# Altium footprint library Gamepad_PCB_Library.PcbLib: 14 footprints
Each footprint in its own frame and in the unit in brackets; x right, y up, seen from the top. Pads: shape width x height; smd on the part's side, far side on the other; paste and mask are expansions set on the pad; w line width, h text height; cw(c..) or ccw(c..) is an arc to the next point about the centre after c.
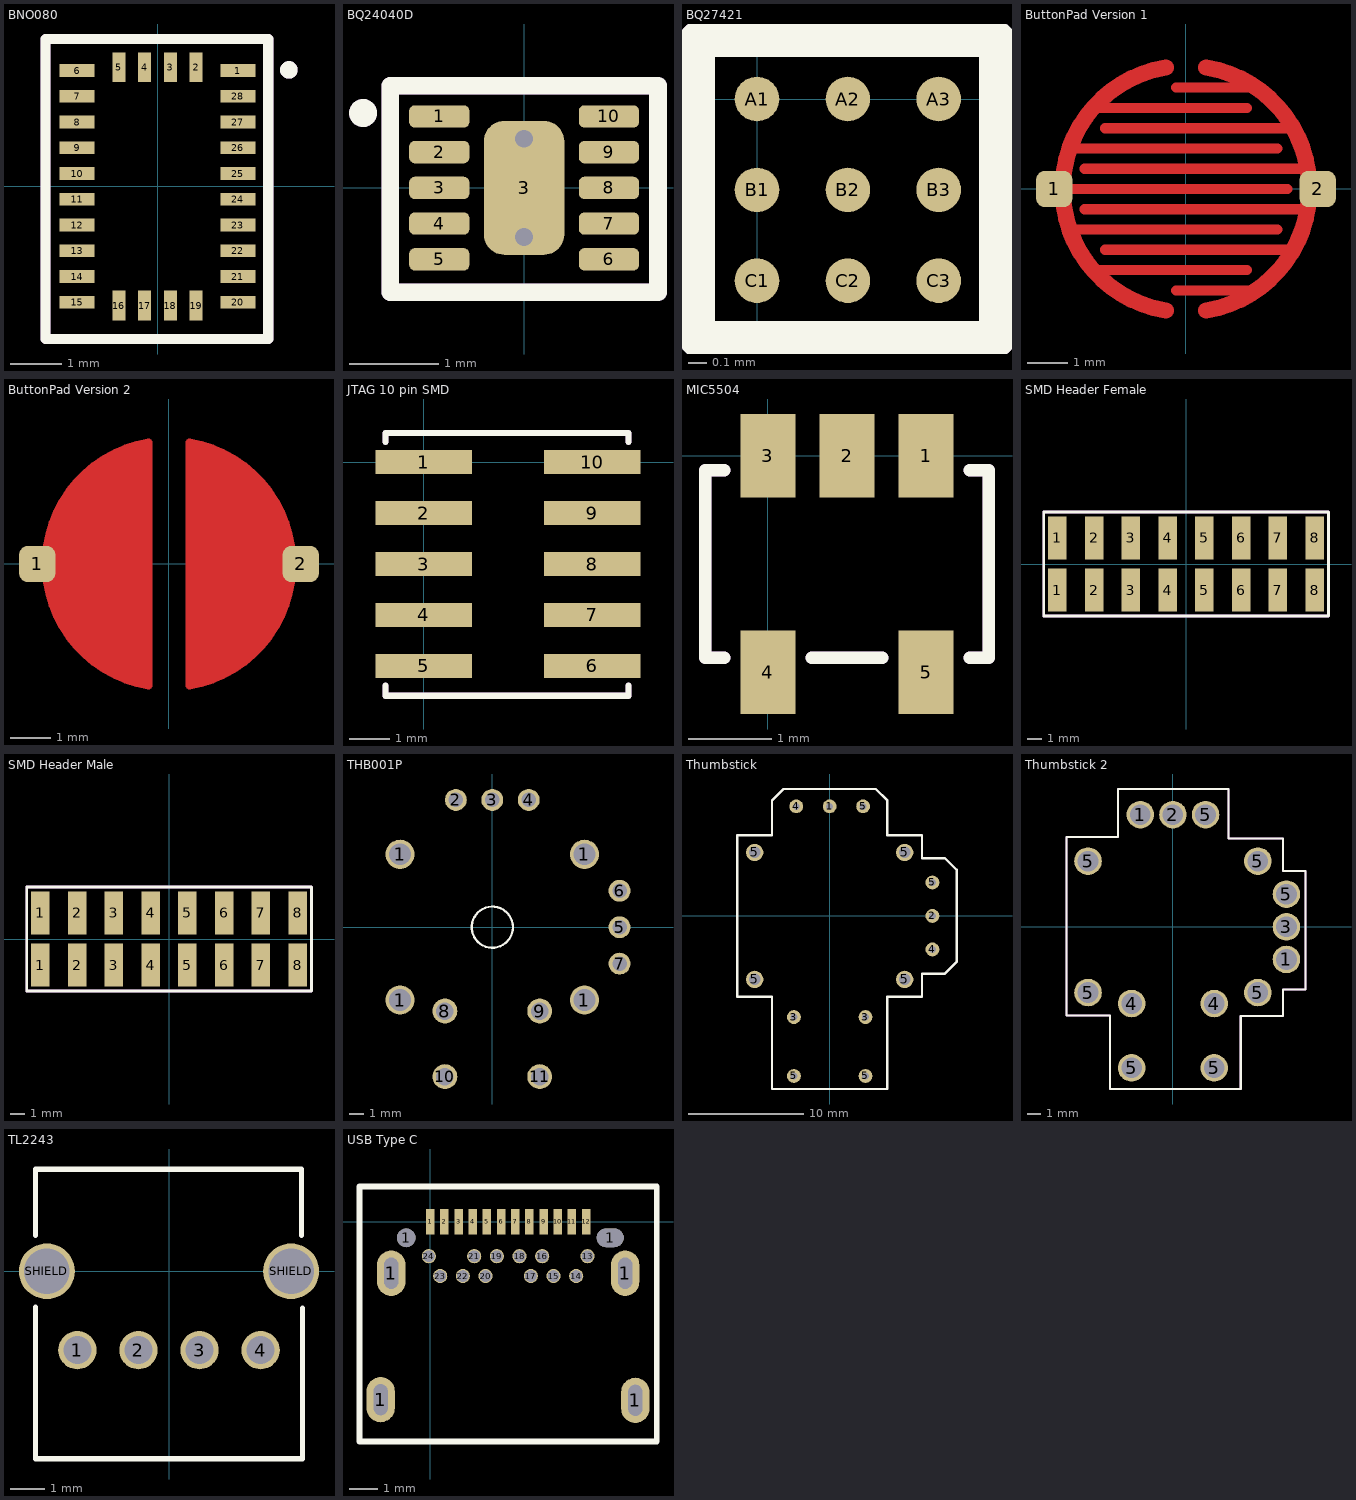
[diagram p0: the footprints below, top view; thin cyan lines are the x and y axes]

## BNO080 [mm]
pads (28):
  rect 0.675x0.25 smd: 1(1.563,2.25) 6(-1.562,2.25) 7(-1.562,1.75) 8(-1.562,1.25) 9(-1.562,0.75) 10(-1.562,0.25) 11(-1.562,-0.25) 12(-1.562,-0.75) 13(-1.562,-1.25) 14(-1.562,-1.75) 15(-1.562,-2.25) 20(1.563,-2.25) 21(1.563,-1.75) 22(1.563,-1.25) 23(1.563,-0.75) 24(1.563,-0.25) 25(1.563,0.25) 26(1.563,0.75) 27(1.563,1.25) 28(1.563,1.75)
  rect 0.25x0.575 smd: 2(0.75,2.312) 3(0.25,2.312) 4(-0.25,2.312) 5(-0.75,2.312) 16(-0.75,-2.312) 17(-0.25,-2.312) 18(0.25,-2.312) 19(0.75,-2.312)
Top Overlay:
  circle w0.198: c2.55,2.262 r0.071
  lines w0.198: -2.175,-2.963 2.15,-2.963 2.15,2.862 -2.175,2.862 -2.175,-2.963
Mechanical 29:
  circle w0.198: c2.55,2.262 r0.071
  lines w0.198: -2.175,-2.963 -2.175,2.862 2.15,2.862 2.15,-2.963 -2.175,-2.963
  text "'.Designator'" at -1.893,-0.338 h0.7
3D body "BNO080--3DModel-STEP-56544.STEP": height 1.19, standoff 0.01, extent -1.887,-2.6 1.913,2.6

## BQ24040D [mm]
pads (11):
  rrect50% 0.675x0.25 smd mask+0.07: 1(-0.95,0.8) 2(-0.95,0.4) 3(-0.95,0) 4(-0.95,-0.4) 5(-0.95,-0.8) 6(0.95,-0.8) 7(0.95,-0.4) 8(0.95,0) 9(0.95,0.4) 10(0.95,0.8)
  rrect50% 0.9x1.5 smd mask+0.07: 3(0,0)
via 0,0.55 diameter 0.3 hole 0.2
via 0,-0.55 diameter 0.3 hole 0.2
Top Overlay:
  circle w0.198: c-1.803,0.838 r0.057
  lines w0.198: -1.5,-1.168 -1.5,1.143 1.5,1.143 1.5,-1.168 -1.5,-1.168
Mechanical 29:
  circle w0.198: c-1.803,0.838 r0.057
  lines w0.198: -1.5,-1.168 -1.5,1.143 1.5,1.143 1.5,-1.168 -1.5,-1.168
  text "'.Designator'" at -1.043,-0.302 h0.7
3D body "BQ24040DSQT.STEP": height 0.81, standoff 0.01, extent -1,-1 1,1

## BQ27421 [mm]
pads (9):
  round 0.245 smd mask+0.05: A1(0,0) A2(0.5,0) A3(1,0) B1(0,-0.5) B2(0.5,-0.5) B3(1,-0.5) C1(0,-1) C2(0.5,-1) C3(1,-1)
Top Overlay:
  lines w0.2: -0.33,-1.321 -0.33,0.33 1.321,0.33 1.321,-1.321 -0.33,-1.321
Mechanical 29:
  lines w0.2: -0.33,-1.321 -0.33,0.33 1.321,0.33 1.321,-1.321 -0.33,-1.321
  text "'.Designator'" at -0.103,-0.835 h0.7
3D body "BQ27421YZFT-G1A.STEP": height 0.63, standoff 0, extent -0.29,-1.31 1.29,0.31

## ButtonPad Version 1 [mm]
pads (2):
  rrect50% 0.9x0.9 smd: 1(-3.25,0) 2(3.25,0)
Top Layer:
  lines w0.25: -3,0 2.5,0 ; -2.75,-1 2.25,-1 ; -2.75,1 2.25,1 ; -2.5,-0.5 3,-0.5 ; -2.5,0.5 3,0.5 ; -2.25,-2 1.5,-2 ; -2.25,2 1.5,2 ; -2,-1.5 2.5,-1.5 ; -2,1.5 2.5,1.5 ; -0.25,-2.5 1.75,-2.5 ; -0.25,2.5 1.75,2.5
  lines w0.4: -0.5,-3 cw(c0,0) -0.5,3 ; 0.5,-3 ccw(c0,0) 0.5,3

## ButtonPad Version 2 [mm]
pads (2):
  rrect50% 0.9x0.9 smd: 1(-3.25,0) 2(3.25,0)
Top Layer:
  region: 0.5,3 0.764,2.956 1.269,2.777 1.735,2.512 2.147,2.17 2.494,1.761 2.763,1.298 2.948,0.795 3.041,0.268 3.041,-0.268 2.948,-0.795 2.763,-1.298 2.494,-1.761 2.147,-2.17 1.735,-2.512 1.269,-2.777 0.764,-2.956 0.5,-3
  region: -0.5,-3 -0.764,-2.956 -1.269,-2.777 -1.735,-2.512 -2.147,-2.17 -2.494,-1.761 -2.763,-1.298 -2.948,-0.795 -3.041,-0.268 -3.041,0.268 -2.948,0.795 -2.763,1.298 -2.494,1.761 -2.147,2.17 -1.735,2.512 -1.269,2.777 -0.764,2.956 -0.5,3
  lines w0.198: -0.5,-3 cw(c0,0) -0.5,3 -0.5,-3 ; 0.5,-3 ccw(c0,0) 0.5,3 0.5,-3

## JTAG 10 pin SMD [mm]
pads (10):
  rect 2.4x0.6 smd: 1(0,0) 2(0,-1.27) 3(0,-2.54) 4(0,-3.81) 5(0,-5.08) 6(4.2,-5.08) 7(4.2,-3.81) 8(4.2,-2.54) 9(4.2,-1.27) 10(4.2,0)
Top Overlay:
  lines w0.15: -0.95,-5.575 -0.95,-5.825 5.1,-5.825 5.1,-5.575 ; -0.95,0.5 -0.95,0.725 5.1,0.725 5.1,0.5
Mechanical 29:
  lines w0.15: -0.95,-5.575 -0.95,-5.825 5.1,-5.825 5.1,-5.575 ; -0.95,0.5 -0.95,0.725 5.1,0.725 5.1,0.5
3D body "FTSH-105-01-F-DV-K-TR.stp": height 6.13, standoff 0.01, extent -0.846,-5.725 4.996,0.625

## MIC5504 [mm]
pads (5):
  rect 0.66x1 smd: 1(1.9,0) 2(0.95,0) 3(0,0) 4(0,-2.6) 5(1.9,-2.6)
Top Overlay:
  lines w0.15: -0.525,-2.425 -0.75,-2.425 -0.75,-0.175 -0.525,-0.175 ; 0.525,-2.425 1.375,-2.425 ; 2.425,-2.425 2.644,-2.425 ; 2.425,-0.175 2.65,-0.175 2.65,-2.425
Mechanical 29:
  lines w0.15: -0.525,-2.425 -0.75,-2.425 -0.75,-0.175 -0.525,-0.175 ; 0.525,-2.425 1.375,-2.425 ; 2.425,-2.425 2.644,-2.425 ; 2.425,-0.175 2.65,-0.175 2.65,-2.425
  text "'.Designator'" at 0.127,-1.661 h0.64
3D body "SOT-23-5_MC_MCH.step": height 1.45, standoff 0, extent -0.599,-2.9 2.499,0.3

## SMD Header Female [mm]
pads (16):
  rect 1.27x2.96 smd: 1(-8.89,-1.8) 1(-8.89,1.8) 2(-6.35,-1.8) 2(-6.35,1.8) 3(-3.81,-1.8) 3(-3.81,1.8) 4(-1.27,-1.8) 4(-1.27,1.8) 5(1.27,-1.8) 5(1.27,1.8) 6(3.81,-1.8) 6(3.81,1.8) 7(6.35,-1.8) 7(6.35,1.8) 8(8.89,-1.8) 8(8.89,1.8)
Top Overlay:
  lines w0.198: -9.83,-3.607 9.855,-3.607 9.855,3.607 -9.83,3.607 -9.83,-3.607
Mechanical 29:
  lines w0.198: -9.83,-3.607 9.855,-3.607 9.855,3.607 -9.83,3.607 -9.83,-3.607
  text "'.Designator'" at -8.79,0.333 h0.7
3D body "SSM-108-L-SV.stp": height 7.51, standoff 0.01, extent -10.109,-2.235 10.211,2.337

## SMD Header Male [mm]
pads (16):
  rect 1.27x2.96 smd: 1(-8.89,-1.8) 1(-8.89,1.8) 2(-6.35,-1.8) 2(-6.35,1.8) 3(-3.81,-1.8) 3(-3.81,1.8) 4(-1.27,-1.8) 4(-1.27,1.8) 5(1.27,-1.8) 5(1.27,1.8) 6(3.81,-1.8) 6(3.81,1.8) 7(6.35,-1.8) 7(6.35,1.8) 8(8.89,-1.8) 8(8.89,1.8)
Top Overlay:
  lines w0.198: -9.83,-3.607 9.855,-3.607 9.855,3.607 -9.83,3.607 -9.83,-3.607
Mechanical 29:
  lines w0.198: -9.83,-3.607 9.855,-3.607 9.855,3.607 -9.83,3.607 -9.83,-3.607
  text "'.Designator'" at -8.79,0.333 h0.7
3D body "TSM-108-01-L-SV (1).stp": height 9.66, standoff 0.01, extent -10.2,-2.642 10.12,2.642

## THB001P [mm]
pads (14):
  round 2 hole 1.5: 1(-6.325,-5) 1(-6.325,5) 1(6.325,-5) 1(6.325,5)
  round 1.5 hole 1: 2(-2.5,8.73) 3(0,8.73) 4(2.5,8.73) 5(8.73,0) 6(8.73,2.5) 7(8.73,-2.5)
  round 1.7 hole 1.2: 8(-3.25,-5.75) 9(3.25,-5.75) 10(-3.25,-10.25) 11(3.25,-10.25)
Top Overlay:
  circle w0.15: c0,0 r1.414
3D body "THB001P.stp": height 19.46, standoff -2.39, extent -7.625,-11.65 9.65,9.625

## Thumbstick [mm]
pads (14):
  round 1.2 hole 0.6: 1(0,9.5) 2(8.9,0) 3(-3.1,-8.77) 3(3.1,-8.77) 4(-2.9,9.5) 4(8.9,-2.9) 5(-3.1,-13.87) 5(2.9,9.5) 5(3.1,-13.87) 5(8.9,2.9)
  round 1.5 hole 1: 5(-6.5,-5.5) 5(-6.5,5.5) 5(6.5,-5.5) 5(6.5,5.5)
Top Overlay:
  lines w0.198: -8,-7 -8,7 -5,7 -5,10 -4,11 4,11 5,10 5,7 8,7 8,5 10,5 11,4 11,-4 10,-5 8,-5 8,-7 5,-7 5,-15 -5,-15 -5,-7 -8,-7

## Thumbstick 2 [mm]
pads (14):
  round 2 hole 1.5: 1(-2.37,8.14) 1(8.245,-2.37) 2(0,8.14) 3(8.245,0) 4(-3,-5.57) 4(3,-5.57) 5(-6.165,-4.77) 5(-6.165,4.77) 5(-3,-10.24) 5(2.37,8.14) 5(3,-10.24) 5(6.165,-4.77) 5(6.165,4.77) 5(8.245,2.37)
Top Overlay:
  lines w0.15: -7.725,-6.45 -7.725,6.525 -3.975,6.525 -3.975,10.008 4.05,10.008 4.05,6.4 8,6.4 8,4.066 9.625,4.066 9.625,-4.548 8,-4.548 8,-6.475 4.928,-6.475 4.928,-11.775 -4.575,-11.775 -4.575,-6.45 -7.725,-6.45
Mechanical 29:
  lines w0.15: -7.725,-6.45 -7.725,6.525 -3.975,6.525 -3.975,10.008 4.05,10.008 4.05,6.4 8,6.4 8,4.066 9.625,4.066 9.625,-4.548 8,-4.548 8,-6.475 4.928,-6.475 4.928,-11.775 -4.575,-11.775 -4.575,-6.45 -7.725,-6.45
  text "'.Designator'" at -2.873,0.339 h0.64
3D body "THB001P.stp": height 19.46, standoff -2.39, extent -7.575,-11.65 9.7,9.625

## TL2243 [mm]
pads (6):
  round 1.1 hole 0.8: 1(-2.625,-2.26) 2(-0.875,-2.26) 3(0.875,-2.26) 4(2.625,-2.26)
  round 1.6 hole 1.3: SHIELD(-3.5,0) SHIELD(3.5,0)
Top Overlay:
  lines w0.15: -3.825,-1.025 -3.825,-5.375 3.825,-5.375 3.825,-1.05 ; -3.825,1.025 -3.825,2.925 3.8,2.925 3.8,1.025
3D body "TL2243.stp": height 9.62, standoff -3.75, extent -4.169,-9.058 4.169,2.747

## USB Type C [mm]
pads (30):
  oval 1x1.6 hole 0.5 slot 1.1 at 90 deg: 1(-1.753,-6.274) 1(-1.38,-1.81) 1(6.88,-1.81) 1(7.239,-6.299)
  round 0.65 hole 0.65: 1(-0.85,-0.56)
  rect 0.3x0.9 smd: 1(0,0) 2(0.5,0) 3(1,0) 4(1.5,0) 5(2,0) 6(2.5,0) 7(3,0) 8(3.5,0) 9(4,0) 10(4.5,0) 11(5,0) 12(5.5,0)
  oval 0.95x0.65 hole 0.95 slot 0.65 at 90 deg: 1(6.35,-0.56)
  round 0.5 hole 0.4: 13(5.55,-1.21) 14(5.15,-1.91) 15(4.35,-1.91) 16(3.95,-1.21) 17(3.55,-1.91) 18(3.15,-1.21) 19(2.35,-1.21) 20(1.95,-1.91) 21(1.55,-1.21) 22(1.15,-1.91) 23(0.35,-1.91) 24(-0.05,-1.21)
Top Overlay:
  lines w0.2: -2.5,-7.75 -2.5,1.25 8,1.25 8,-7.75 -2.5,-7.75
3D body "10137062c.stp": height 3.14, standoff -1.06, extent -2.056,-7.621 7.594,1.079